# Altium integrated library Atmel Industry Compatible CPLD.IntLib: 281 symbols (part 13 of 13)
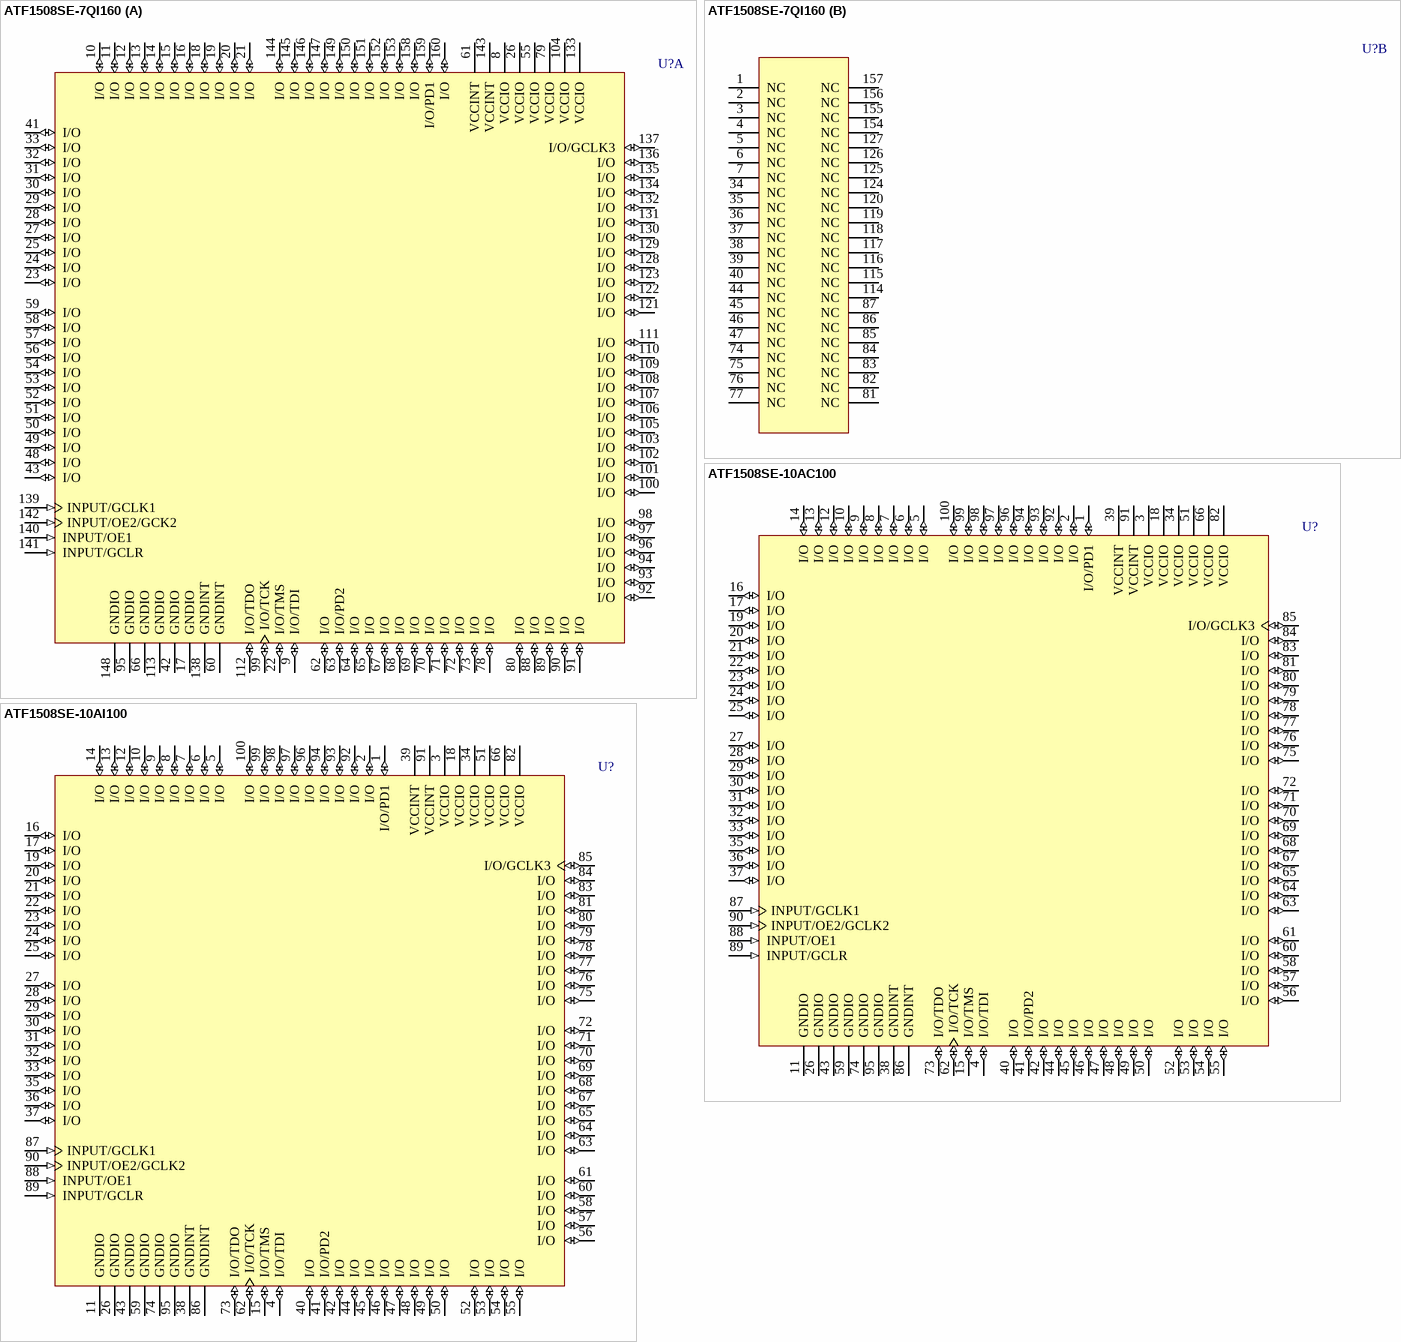
[diagram p62: symbols ATF1508SE-7QI160 to ATF1508SE-10AI100]

## ATF1508SE-7QI160
designator U?
ATF1508SE 5.0V CPLD, 128 Macrocells, 160-Lead PQFP, Speed Grade 7.5, Industrial Grade; Published: 19-Mar-2004; LatestRevisionDate: 13-Apr-2006; LatestRevisionNote: IPC-7351 Footprint Added.; DatasheetVersion: Rev. 2401D-PLD-09/02; PackageVersion: rev.A, Mar-2002; PackageReference: 160Q1; Publisher: Altium Limited; PackageDescription: 160-Pin Quad Flat Pack 0.65 mm Pitch; Code_JEDEC: MS-022-DD-1; Code_IPC: QFP65P3120X3120-160; ComponentLink1Description: Manufacturer Link; ComponentLink1URL: http://www.atmel.com/products/pld/default.asp; ComponentLink2Description: Datasheet; ComponentLink2URL: http://www.atmel.com/dyn/resources/prod_documents/DOC2401.pdf; ComponentLink3Description: Atmel.com Home; ComponentLink3URL: http://www.atmel.com
footprint 160Q1_N (QFP, 160-Leads, Body 28x28mm, Pitch 0.65mm, IPC Medium Density)
footprint 160Q1_L (QFP, 160-Leads, Body 28x28mm, Pitch 0.65mm, IPC High Density)
footprint 160Q1_M (QFP, 160-Leads, Body 28x28mm, Pitch 0.65mm, IPC Low Density)
part A pins: 8 VCCIO (power), 9 I/O/TDI (io), 10 I/O (io), 11 I/O (io), 12 I/O (io), 13 I/O (io), 14 I/O (io), 15 I/O (io), 16 I/O (io), 17 GNDIO (power), 18 I/O (io), 19 I/O (io), 20 I/O (io), 21 I/O (io), 22 I/O/TMS (io), 23 I/O (io), 24 I/O (io), 25 I/O (io), 26 VCCIO (power), 27 I/O (io), 28 I/O (io), 29 I/O (io), 30 I/O (io), 31 I/O (io), 32 I/O (io), 33 I/O (io), 41 I/O (io), 42 GNDIO (power), 43 I/O (io), 48 I/O (io), 49 I/O (io), 50 I/O (io), 51 I/O (io), 52 I/O (io), 53 I/O (io), 54 I/O (io), 55 VCCIO (power), 56 I/O (io), 57 I/O (io), 58 I/O (io), 59 I/O (io), 60 GNDINT (power), 61 VCCINT (power), 62 I/O (io), 63 I/O/PD2 (io), 64 I/O (io), 65 I/O (io), 66 GNDIO (power), 67 I/O (io), 68 I/O (io), 69 I/O (io), 70 I/O (io), 71 I/O (io), 72 I/O (io), 73 I/O (io), 78 I/O (io), 79 VCCIO (power), 80 I/O (io), 88 I/O (io), 89 I/O (io), 90 I/O (io), 91 I/O (io), 92 I/O (io), 93 I/O (io), 94 I/O (io), 95 GNDIO (power), 96 I/O (io), 97 I/O (io), 98 I/O (io), 99 I/O/TCK (io), 100 I/O (io), 101 I/O (io), 102 I/O (io), 103 I/O (io), 104 VCCIO (power), 105 I/O (io), 106 I/O (io), 107 I/O (io), 108 I/O (io), 109 I/O (io), 110 I/O (io), 111 I/O (io), 112 I/O/TDO (io), 113 GNDIO (power), 121 I/O (io), 122 I/O (io), 123 I/O (io), 128 I/O (io), 129 I/O (io), 130 I/O (io), 131 I/O (io), 132 I/O (io), 133 VCCIO (power), 134 I/O (io), 135 I/O (io), 136 I/O (io), 137 I/O/GCLK3 (io), 138 GNDINT (power), 139 INPUT/GCLK1 (in), 140 INPUT/OE1 (in), 141 INPUT/GCLR (in), 142 INPUT/OE2/GCK2 (in), 143 VCCINT (power), 144 I/O (io), 145 I/O (io), 146 I/O (io), 147 I/O (io), 148 GNDIO (power), 149 I/O (io), 150 I/O (io), 151 I/O (io), 152 I/O (io), 153 I/O (io), 158 I/O (io), 159 I/O/PD1 (io), 160 I/O (io)
part B pins: 1 NC, 2 NC, 3 NC, 4 NC, 5 NC, 6 NC, 7 NC, 34 NC, 35 NC, 36 NC, 37 NC, 38 NC, 39 NC, 40 NC, 44 NC, 45 NC, 46 NC, 47 NC, 74 NC, 75 NC, 76 NC, 77 NC, 81 NC, 82 NC, 83 NC, 84 NC, 85 NC, 86 NC, 87 NC, 114 NC, 115 NC, 116 NC, 117 NC, 118 NC, 119 NC, 120 NC, 124 NC, 125 NC, 126 NC, 127 NC, 154 NC, 155 NC, 156 NC, 157 NC

## ATF1508SE-10AC100
designator U?
ATF1508SE 5.0V CPLD, 128 Macrocells, 100-Lead TQFP, Speed Grade 10, Commercial Grade; Published: 19-Mar-2004; LatestRevisionDate: 13-Apr-2006; LatestRevisionNote: IPC-7351 Footprint Added.; DatasheetVersion: Rev. 2401D-PLD-09/02; PackageVersion: rev.A, Nov-2001; PackageReference: 100T1; Publisher: Altium Limited; PackageDescription: 100-Pin Thin Quad Flat Pack 0.5 mm Pitch; Code_JEDEC: MS-026-AED; ComponentLink1Description: Manufacturer Link; ComponentLink1URL: http://www.atmel.com/products/pld/default.asp; ComponentLink2Description: Datasheet; ComponentLink2URL: http://www.atmel.com/dyn/resources/prod_documents/DOC2401.pdf; ComponentLink3Description: Atmel.com Home; ComponentLink3URL: http://www.atmel.com
footprint 100T1_N (Thin QFP, 100-Leads, Body 14x14mm, Pitch 0.5mm, IPC Medium Density)
footprint 100T1_L (Thin QFP, 100-Leads, Body 14x14mm, Pitch 0.5mm, IPC High Density)
footprint 100T1_M (Thin QFP, 100-Leads, Body 14x14mm, Pitch 0.5mm, IPC Low Density)
pins: 1 I/O/PD1 (io), 2 I/O (io), 3 VCCIO (power), 4 I/O/TDI (io), 5 I/O (io), 6 I/O (io), 7 I/O (io), 8 I/O (io), 9 I/O (io), 10 I/O (io), 11 GNDIO (power), 12 I/O (io), 13 I/O (io), 14 I/O (io), 15 I/O/TMS (io), 16 I/O (io), 17 I/O (io), 18 VCCIO (power), 19 I/O (io), 20 I/O (io), 21 I/O (io), 22 I/O (io), 23 I/O (io), 24 I/O (io), 25 I/O (io), 26 GNDIO (power), 27 I/O (io), 28 I/O (io), 29 I/O (io), 30 I/O (io), 31 I/O (io), 32 I/O (io), 33 I/O (io), 34 VCCIO (power), 35 I/O (io), 36 I/O (io), 37 I/O (io), 38 GNDINT (power), 39 VCCINT (power), 40 I/O (io), 41 I/O/PD2 (io), 42 I/O (io), 43 GNDIO (power), 44 I/O (io), 45 I/O (io), 46 I/O (io), 47 I/O (io), 48 I/O (io), 49 I/O (io), 50 I/O (io), 51 VCCIO (power), 52 I/O (io), 53 I/O (io), 54 I/O (io), 55 I/O (io), 56 I/O (io), 57 I/O (io), 58 I/O (io), 59 GNDIO (power), 60 I/O (io), 61 I/O (io), 62 I/O/TCK (io), 63 I/O (io), 64 I/O (io), 65 I/O (io), 66 VCCIO (power), 67 I/O (io), 68 I/O (io), 69 I/O (io), 70 I/O (io), 71 I/O (io), 72 I/O (io), 73 I/O/TDO (io), 74 GNDIO (power), 75 I/O (io), 76 I/O (io), 77 I/O (io), 78 I/O (io), 79 I/O (io), 80 I/O (io), 81 I/O (io), 82 VCCIO (power), 83 I/O (io), 84 I/O (io), 85 I/O/GCLK3 (io), 86 GNDINT (power), 87 INPUT/GCLK1 (in), 88 INPUT/OE1 (in), 89 INPUT/GCLR (in), 90 INPUT/OE2/GCLK2 (in), 91 VCCINT (power), 92 I/O (io), 93 I/O (io), 94 I/O (io), 95 GNDIO (power), 96 I/O (io), 97 I/O (io), 98 I/O (io), 99 I/O (io), 100 I/O (io)

## ATF1508SE-10AI100
designator U?
ATF1508SE 5.0V CPLD, 128 Macrocells, 100-Lead TQFP, Speed Grade 10, Industrial Grade; Published: 19-Mar-2004; LatestRevisionDate: 13-Apr-2006; LatestRevisionNote: IPC-7351 Footprint Added.; DatasheetVersion: Rev. 2401D-PLD-09/02; PackageVersion: rev.A, Nov-2001; PackageReference: 100T1; Publisher: Altium Limited; PackageDescription: 100-Pin Thin Quad Flat Pack 0.5 mm Pitch; Code_JEDEC: MS-026-AED; ComponentLink1Description: Manufacturer Link; ComponentLink1URL: http://www.atmel.com/products/pld/default.asp; ComponentLink2Description: Datasheet; ComponentLink2URL: http://www.atmel.com/dyn/resources/prod_documents/DOC2401.pdf; ComponentLink3Description: Atmel.com Home; ComponentLink3URL: http://www.atmel.com
footprint 100T1_N (Thin QFP, 100-Leads, Body 14x14mm, Pitch 0.5mm, IPC Medium Density)
footprint 100T1_L (Thin QFP, 100-Leads, Body 14x14mm, Pitch 0.5mm, IPC High Density)
footprint 100T1_M (Thin QFP, 100-Leads, Body 14x14mm, Pitch 0.5mm, IPC Low Density)
pins: 1 I/O/PD1 (io), 2 I/O (io), 3 VCCIO (power), 4 I/O/TDI (io), 5 I/O (io), 6 I/O (io), 7 I/O (io), 8 I/O (io), 9 I/O (io), 10 I/O (io), 11 GNDIO (power), 12 I/O (io), 13 I/O (io), 14 I/O (io), 15 I/O/TMS (io), 16 I/O (io), 17 I/O (io), 18 VCCIO (power), 19 I/O (io), 20 I/O (io), 21 I/O (io), 22 I/O (io), 23 I/O (io), 24 I/O (io), 25 I/O (io), 26 GNDIO (power), 27 I/O (io), 28 I/O (io), 29 I/O (io), 30 I/O (io), 31 I/O (io), 32 I/O (io), 33 I/O (io), 34 VCCIO (power), 35 I/O (io), 36 I/O (io), 37 I/O (io), 38 GNDINT (power), 39 VCCINT (power), 40 I/O (io), 41 I/O/PD2 (io), 42 I/O (io), 43 GNDIO (power), 44 I/O (io), 45 I/O (io), 46 I/O (io), 47 I/O (io), 48 I/O (io), 49 I/O (io), 50 I/O (io), 51 VCCIO (power), 52 I/O (io), 53 I/O (io), 54 I/O (io), 55 I/O (io), 56 I/O (io), 57 I/O (io), 58 I/O (io), 59 GNDIO (power), 60 I/O (io), 61 I/O (io), 62 I/O/TCK (io), 63 I/O (io), 64 I/O (io), 65 I/O (io), 66 VCCIO (power), 67 I/O (io), 68 I/O (io), 69 I/O (io), 70 I/O (io), 71 I/O (io), 72 I/O (io), 73 I/O/TDO (io), 74 GNDIO (power), 75 I/O (io), 76 I/O (io), 77 I/O (io), 78 I/O (io), 79 I/O (io), 80 I/O (io), 81 I/O (io), 82 VCCIO (power), 83 I/O (io), 84 I/O (io), 85 I/O/GCLK3 (io), 86 GNDINT (power), 87 INPUT/GCLK1 (in), 88 INPUT/OE1 (in), 89 INPUT/GCLR (in), 90 INPUT/OE2/GCLK2 (in), 91 VCCINT (power), 92 I/O (io), 93 I/O (io), 94 I/O (io), 95 GNDIO (power), 96 I/O (io), 97 I/O (io), 98 I/O (io), 99 I/O (io), 100 I/O (io)

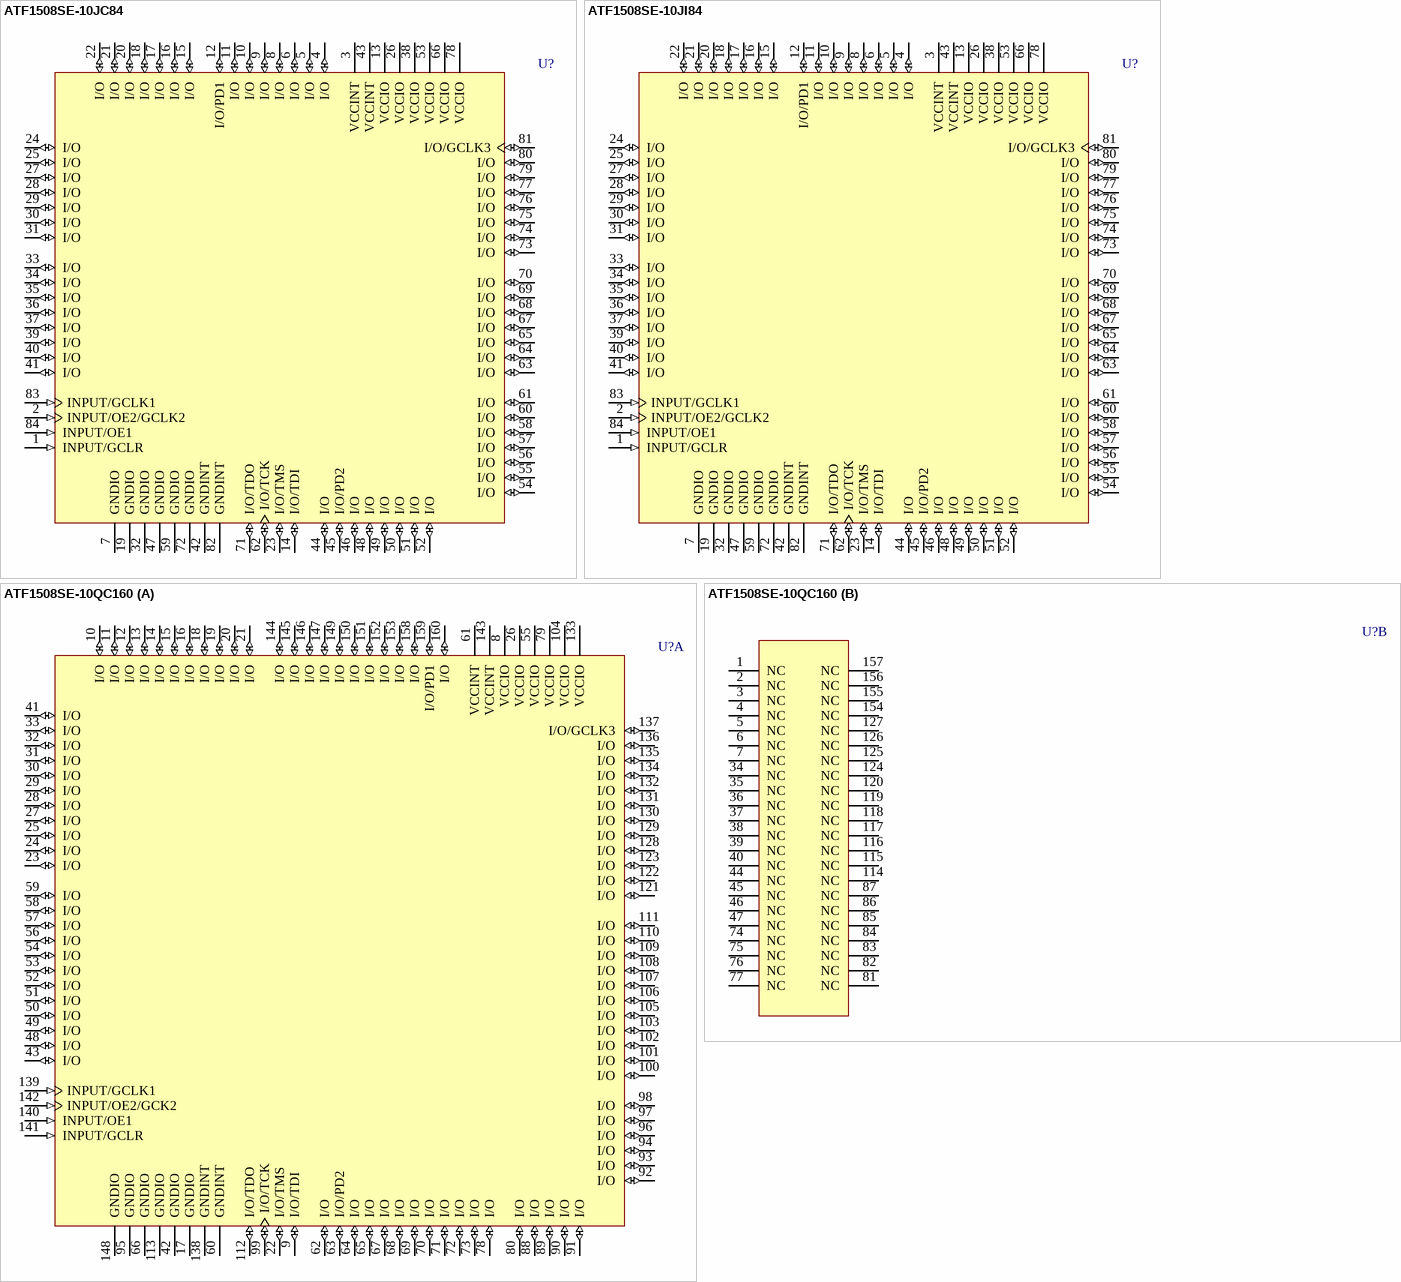
[diagram p48: symbols ATF1508SE-10JC84 to ATF1508SE-10QC160]

## ATF1508SE-10JC84
designator U?
ATF1508SE 5.0V CPLD, 128 Macrocells, 84-Lead PLCC, Speed Grade 10, Commercial Grade; Published: 19-Mar-2004; LatestRevisionDate: 13-Apr-2006; LatestRevisionNote: IPC-7351 Footprint Added.; DatasheetVersion: Rev. 2401D-PLD-09/02; PackageVersion: rev.B, Oct-2001; PackageReference: 84J; Publisher: Altium Limited; PackageDescription: 84J, 84-lead, Plastic J-leaded Chip Carrier (PLCC); Code_JEDEC: MS-018-AF; Code_IPC: PLCC-84; ComponentLink1Description: Manufacturer Link; ComponentLink1URL: http://www.atmel.com/products/pld/default.asp; ComponentLink2Description: Datasheet; ComponentLink2URL: http://www.atmel.com/dyn/resources/prod_documents/DOC2401.pdf; ComponentLink3Description: Atmel.com Home; ComponentLink3URL: http://www.atmel.com
footprint 84J_N (Leaded Chip Carrier, 84-Leads, Body 29.3x29.3mm, Pitch 1.27mm, IPC Medium Density)
footprint 84J_L (Leaded Chip Carrier, 84-Leads, Body 29.3x29.3mm, Pitch 1.27mm, IPC High Density)
footprint 84J_M (Leaded Chip Carrier, 84-Leads, Body 29.3x29.3mm, Pitch 1.27mm, IPC Low Density)
pins: 1 INPUT/GCLR (in), 2 INPUT/OE2/GCLK2 (in), 3 VCCINT (power), 4 I/O (io), 5 I/O (io), 6 I/O (io), 7 GNDIO (power), 8 I/O (io), 9 I/O (io), 10 I/O (io), 11 I/O (io), 12 I/O/PD1 (io), 13 VCCIO (power), 14 I/O/TDI (io), 15 I/O (io), 16 I/O (io), 17 I/O (io), 18 I/O (io), 19 GNDIO (power), 20 I/O (io), 21 I/O (io), 22 I/O (io), 23 I/O/TMS (io), 24 I/O (io), 25 I/O (io), 26 VCCIO (power), 27 I/O (io), 28 I/O (io), 29 I/O (io), 30 I/O (io), 31 I/O (io), 32 GNDIO (power), 33 I/O (io), 34 I/O (io), 35 I/O (io), 36 I/O (io), 37 I/O (io), 38 VCCIO (power), 39 I/O (io), 40 I/O (io), 41 I/O (io), 42 GNDINT (power), 43 VCCINT (power), 44 I/O (io), 45 I/O/PD2 (io), 46 I/O (io), 47 GNDIO (power), 48 I/O (io), 49 I/O (io), 50 I/O (io), 51 I/O (io), 52 I/O (io), 53 VCCIO (power), 54 I/O (io), 55 I/O (io), 56 I/O (io), 57 I/O (io), 58 I/O (io), 59 GNDIO (power), 60 I/O (io), 61 I/O (io), 62 I/O/TCK (io), 63 I/O (io), 64 I/O (io), 65 I/O (io), 66 VCCIO (power), 67 I/O (io), 68 I/O (io), 69 I/O (io), 70 I/O (io), 71 I/O/TDO (io), 72 GNDIO (power), 73 I/O (io), 74 I/O (io), 75 I/O (io), 76 I/O (io), 77 I/O (io), 78 VCCIO (power), 79 I/O (io), 80 I/O (io), 81 I/O/GCLK3 (io), 82 GNDINT (power), 83 INPUT/GCLK1 (in), 84 INPUT/OE1 (in)

## ATF1508SE-10JI84
designator U?
ATF1508SE 5.0V CPLD, 128 Macrocells, 84-Lead PLCC, Speed Grade 10, Industrial Grade; Published: 19-Mar-2004; LatestRevisionDate: 13-Apr-2006; LatestRevisionNote: IPC-7351 Footprint Added.; DatasheetVersion: Rev. 2401D-PLD-09/02; PackageVersion: rev.B, Oct-2001; PackageReference: 84J; Publisher: Altium Limited; PackageDescription: 84J, 84-lead, Plastic J-leaded Chip Carrier (PLCC); Code_JEDEC: MS-018-AF; Code_IPC: PLCC-84; ComponentLink1Description: Manufacturer Link; ComponentLink1URL: http://www.atmel.com/products/pld/default.asp; ComponentLink2Description: Datasheet; ComponentLink2URL: http://www.atmel.com/dyn/resources/prod_documents/DOC2401.pdf; ComponentLink3Description: Atmel.com Home; ComponentLink3URL: http://www.atmel.com
footprint 84J_N (Leaded Chip Carrier, 84-Leads, Body 29.3x29.3mm, Pitch 1.27mm, IPC Medium Density)
footprint 84J_L (Leaded Chip Carrier, 84-Leads, Body 29.3x29.3mm, Pitch 1.27mm, IPC High Density)
footprint 84J_M (Leaded Chip Carrier, 84-Leads, Body 29.3x29.3mm, Pitch 1.27mm, IPC Low Density)
pins: 1 INPUT/GCLR (in), 2 INPUT/OE2/GCLK2 (in), 3 VCCINT (power), 4 I/O (io), 5 I/O (io), 6 I/O (io), 7 GNDIO (power), 8 I/O (io), 9 I/O (io), 10 I/O (io), 11 I/O (io), 12 I/O/PD1 (io), 13 VCCIO (power), 14 I/O/TDI (io), 15 I/O (io), 16 I/O (io), 17 I/O (io), 18 I/O (io), 19 GNDIO (power), 20 I/O (io), 21 I/O (io), 22 I/O (io), 23 I/O/TMS (io), 24 I/O (io), 25 I/O (io), 26 VCCIO (power), 27 I/O (io), 28 I/O (io), 29 I/O (io), 30 I/O (io), 31 I/O (io), 32 GNDIO (power), 33 I/O (io), 34 I/O (io), 35 I/O (io), 36 I/O (io), 37 I/O (io), 38 VCCIO (power), 39 I/O (io), 40 I/O (io), 41 I/O (io), 42 GNDINT (power), 43 VCCINT (power), 44 I/O (io), 45 I/O/PD2 (io), 46 I/O (io), 47 GNDIO (power), 48 I/O (io), 49 I/O (io), 50 I/O (io), 51 I/O (io), 52 I/O (io), 53 VCCIO (power), 54 I/O (io), 55 I/O (io), 56 I/O (io), 57 I/O (io), 58 I/O (io), 59 GNDIO (power), 60 I/O (io), 61 I/O (io), 62 I/O/TCK (io), 63 I/O (io), 64 I/O (io), 65 I/O (io), 66 VCCIO (power), 67 I/O (io), 68 I/O (io), 69 I/O (io), 70 I/O (io), 71 I/O/TDO (io), 72 GNDIO (power), 73 I/O (io), 74 I/O (io), 75 I/O (io), 76 I/O (io), 77 I/O (io), 78 VCCIO (power), 79 I/O (io), 80 I/O (io), 81 I/O/GCLK3 (io), 82 GNDINT (power), 83 INPUT/GCLK1 (in), 84 INPUT/OE1 (in)

## ATF1508SE-10QC160
designator U?
ATF1508SE 5.0V CPLD, 128 Macrocells, 160-Lead PQFP, Speed Grade 10, Commercial Grade; Published: 19-Mar-2004; LatestRevisionDate: 13-Apr-2006; LatestRevisionNote: IPC-7351 Footprint Added.; DatasheetVersion: Rev. 2401D-PLD-09/02; PackageVersion: rev.A, Mar-2002; PackageReference: 160Q1; Publisher: Altium Limited; PackageDescription: 160-Pin Quad Flat Pack 0.65 mm Pitch; Code_JEDEC: MS-022-DD-1; Code_IPC: QFP65P3120X3120-160; ComponentLink1Description: Manufacturer Link; ComponentLink1URL: http://www.atmel.com/products/pld/default.asp; ComponentLink2Description: Datasheet; ComponentLink2URL: http://www.atmel.com/dyn/resources/prod_documents/DOC2401.pdf; ComponentLink3Description: Atmel.com Home; ComponentLink3URL: http://www.atmel.com
footprint 160Q1_N (QFP, 160-Leads, Body 28x28mm, Pitch 0.65mm, IPC Medium Density)
footprint 160Q1_L (QFP, 160-Leads, Body 28x28mm, Pitch 0.65mm, IPC High Density)
footprint 160Q1_M (QFP, 160-Leads, Body 28x28mm, Pitch 0.65mm, IPC Low Density)
part A pins: 8 VCCIO (power), 9 I/O/TDI (io), 10 I/O (io), 11 I/O (io), 12 I/O (io), 13 I/O (io), 14 I/O (io), 15 I/O (io), 16 I/O (io), 17 GNDIO (power), 18 I/O (io), 19 I/O (io), 20 I/O (io), 21 I/O (io), 22 I/O/TMS (io), 23 I/O (io), 24 I/O (io), 25 I/O (io), 26 VCCIO (power), 27 I/O (io), 28 I/O (io), 29 I/O (io), 30 I/O (io), 31 I/O (io), 32 I/O (io), 33 I/O (io), 41 I/O (io), 42 GNDIO (power), 43 I/O (io), 48 I/O (io), 49 I/O (io), 50 I/O (io), 51 I/O (io), 52 I/O (io), 53 I/O (io), 54 I/O (io), 55 VCCIO (power), 56 I/O (io), 57 I/O (io), 58 I/O (io), 59 I/O (io), 60 GNDINT (power), 61 VCCINT (power), 62 I/O (io), 63 I/O/PD2 (io), 64 I/O (io), 65 I/O (io), 66 GNDIO (power), 67 I/O (io), 68 I/O (io), 69 I/O (io), 70 I/O (io), 71 I/O (io), 72 I/O (io), 73 I/O (io), 78 I/O (io), 79 VCCIO (power), 80 I/O (io), 88 I/O (io), 89 I/O (io), 90 I/O (io), 91 I/O (io), 92 I/O (io), 93 I/O (io), 94 I/O (io), 95 GNDIO (power), 96 I/O (io), 97 I/O (io), 98 I/O (io), 99 I/O/TCK (io), 100 I/O (io), 101 I/O (io), 102 I/O (io), 103 I/O (io), 104 VCCIO (power), 105 I/O (io), 106 I/O (io), 107 I/O (io), 108 I/O (io), 109 I/O (io), 110 I/O (io), 111 I/O (io), 112 I/O/TDO (io), 113 GNDIO (power), 121 I/O (io), 122 I/O (io), 123 I/O (io), 128 I/O (io), 129 I/O (io), 130 I/O (io), 131 I/O (io), 132 I/O (io), 133 VCCIO (power), 134 I/O (io), 135 I/O (io), 136 I/O (io), 137 I/O/GCLK3 (io), 138 GNDINT (power), 139 INPUT/GCLK1 (in), 140 INPUT/OE1 (in), 141 INPUT/GCLR (in), 142 INPUT/OE2/GCK2 (in), 143 VCCINT (power), 144 I/O (io), 145 I/O (io), 146 I/O (io), 147 I/O (io), 148 GNDIO (power), 149 I/O (io), 150 I/O (io), 151 I/O (io), 152 I/O (io), 153 I/O (io), 158 I/O (io), 159 I/O/PD1 (io), 160 I/O (io)
part B pins: 1 NC, 2 NC, 3 NC, 4 NC, 5 NC, 6 NC, 7 NC, 34 NC, 35 NC, 36 NC, 37 NC, 38 NC, 39 NC, 40 NC, 44 NC, 45 NC, 46 NC, 47 NC, 74 NC, 75 NC, 76 NC, 77 NC, 81 NC, 82 NC, 83 NC, 84 NC, 85 NC, 86 NC, 87 NC, 114 NC, 115 NC, 116 NC, 117 NC, 118 NC, 119 NC, 120 NC, 124 NC, 125 NC, 126 NC, 127 NC, 154 NC, 155 NC, 156 NC, 157 NC

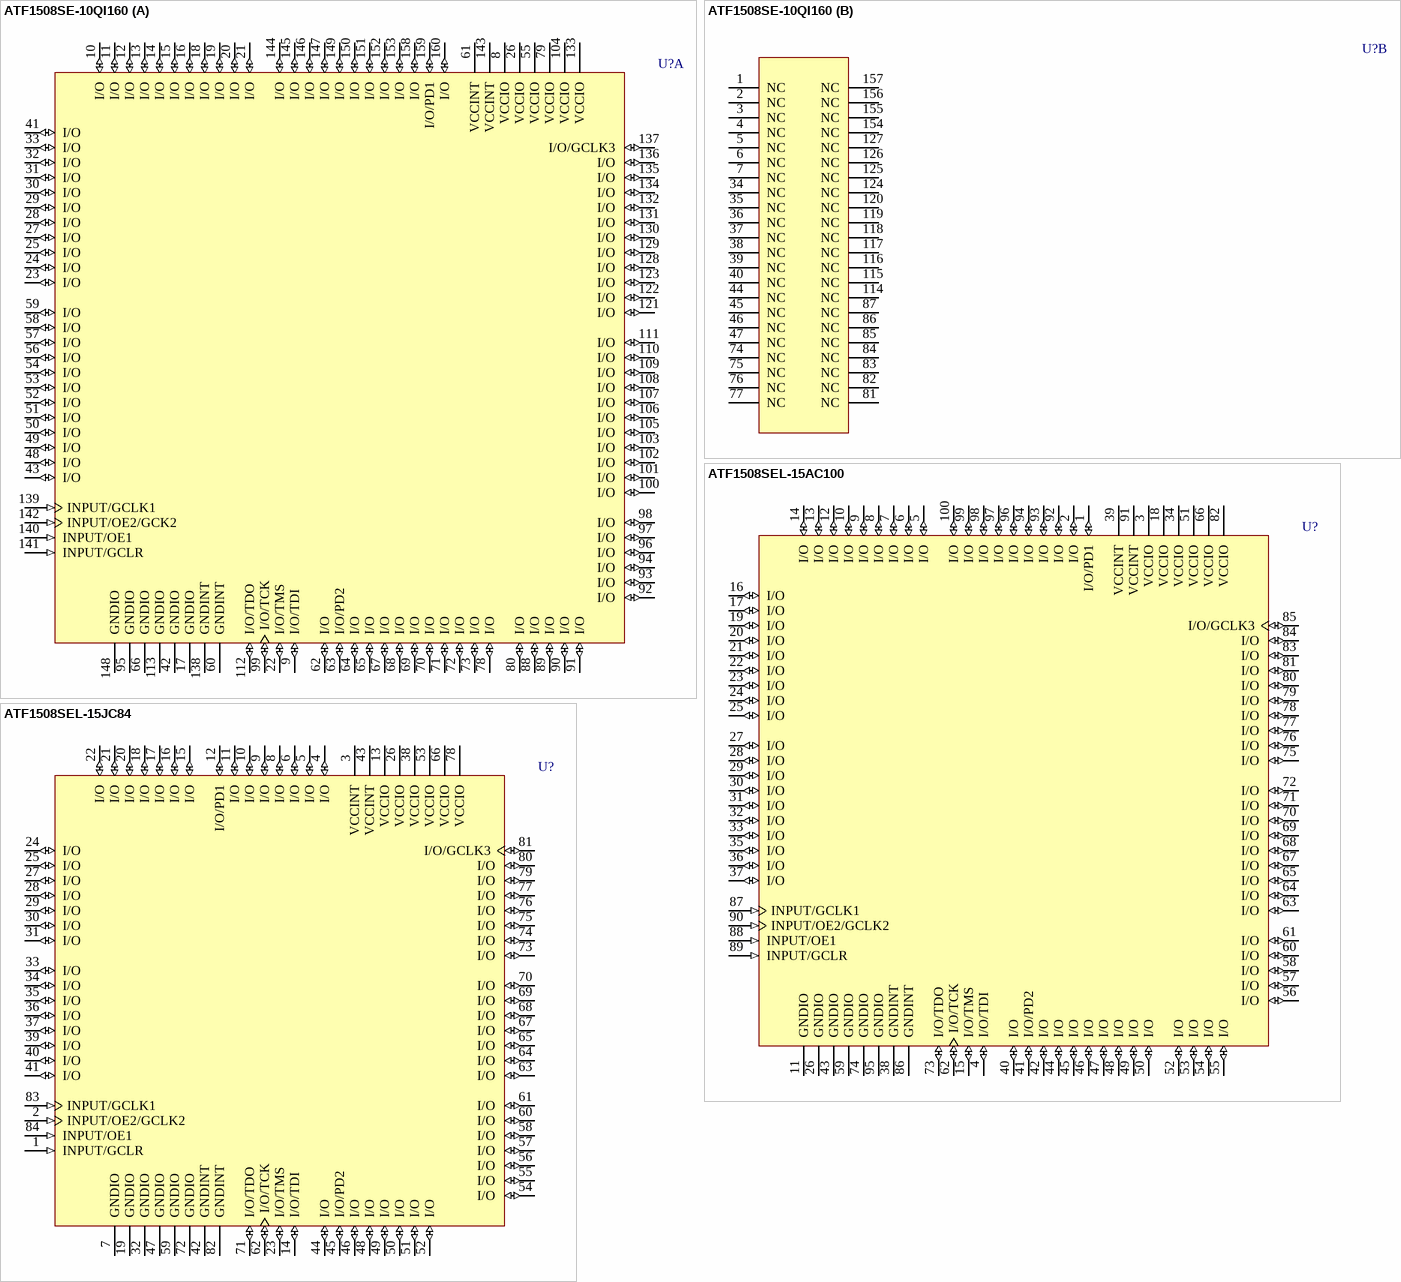
[diagram p49: symbols ATF1508SE-10QI160 to ATF1508SEL-15JC84]

## ATF1508SE-10QI160
designator U?
ATF1508SE 5.0V CPLD, 128 Macrocells, 160-Lead PQFP, Speed Grade 10, Industrial Grade; Published: 19-Mar-2004; LatestRevisionDate: 13-Apr-2006; LatestRevisionNote: IPC-7351 Footprint Added.; DatasheetVersion: Rev. 2401D-PLD-09/02; PackageVersion: rev.A, Mar-2002; PackageReference: 160Q1; Publisher: Altium Limited; PackageDescription: 160-Pin Quad Flat Pack 0.65 mm Pitch; Code_JEDEC: MS-022-DD-1; Code_IPC: QFP65P3120X3120-160; ComponentLink1Description: Manufacturer Link; ComponentLink1URL: http://www.atmel.com/products/pld/default.asp; ComponentLink2Description: Datasheet; ComponentLink2URL: http://www.atmel.com/dyn/resources/prod_documents/DOC2401.pdf; ComponentLink3Description: Atmel.com Home; ComponentLink3URL: http://www.atmel.com
footprint 160Q1_N (QFP, 160-Leads, Body 28x28mm, Pitch 0.65mm, IPC Medium Density)
footprint 160Q1_L (QFP, 160-Leads, Body 28x28mm, Pitch 0.65mm, IPC High Density)
footprint 160Q1_M (QFP, 160-Leads, Body 28x28mm, Pitch 0.65mm, IPC Low Density)
part A pins: 8 VCCIO (power), 9 I/O/TDI (io), 10 I/O (io), 11 I/O (io), 12 I/O (io), 13 I/O (io), 14 I/O (io), 15 I/O (io), 16 I/O (io), 17 GNDIO (power), 18 I/O (io), 19 I/O (io), 20 I/O (io), 21 I/O (io), 22 I/O/TMS (io), 23 I/O (io), 24 I/O (io), 25 I/O (io), 26 VCCIO (power), 27 I/O (io), 28 I/O (io), 29 I/O (io), 30 I/O (io), 31 I/O (io), 32 I/O (io), 33 I/O (io), 41 I/O (io), 42 GNDIO (power), 43 I/O (io), 48 I/O (io), 49 I/O (io), 50 I/O (io), 51 I/O (io), 52 I/O (io), 53 I/O (io), 54 I/O (io), 55 VCCIO (power), 56 I/O (io), 57 I/O (io), 58 I/O (io), 59 I/O (io), 60 GNDINT (power), 61 VCCINT (power), 62 I/O (io), 63 I/O/PD2 (io), 64 I/O (io), 65 I/O (io), 66 GNDIO (power), 67 I/O (io), 68 I/O (io), 69 I/O (io), 70 I/O (io), 71 I/O (io), 72 I/O (io), 73 I/O (io), 78 I/O (io), 79 VCCIO (power), 80 I/O (io), 88 I/O (io), 89 I/O (io), 90 I/O (io), 91 I/O (io), 92 I/O (io), 93 I/O (io), 94 I/O (io), 95 GNDIO (power), 96 I/O (io), 97 I/O (io), 98 I/O (io), 99 I/O/TCK (io), 100 I/O (io), 101 I/O (io), 102 I/O (io), 103 I/O (io), 104 VCCIO (power), 105 I/O (io), 106 I/O (io), 107 I/O (io), 108 I/O (io), 109 I/O (io), 110 I/O (io), 111 I/O (io), 112 I/O/TDO (io), 113 GNDIO (power), 121 I/O (io), 122 I/O (io), 123 I/O (io), 128 I/O (io), 129 I/O (io), 130 I/O (io), 131 I/O (io), 132 I/O (io), 133 VCCIO (power), 134 I/O (io), 135 I/O (io), 136 I/O (io), 137 I/O/GCLK3 (io), 138 GNDINT (power), 139 INPUT/GCLK1 (in), 140 INPUT/OE1 (in), 141 INPUT/GCLR (in), 142 INPUT/OE2/GCK2 (in), 143 VCCINT (power), 144 I/O (io), 145 I/O (io), 146 I/O (io), 147 I/O (io), 148 GNDIO (power), 149 I/O (io), 150 I/O (io), 151 I/O (io), 152 I/O (io), 153 I/O (io), 158 I/O (io), 159 I/O/PD1 (io), 160 I/O (io)
part B pins: 1 NC, 2 NC, 3 NC, 4 NC, 5 NC, 6 NC, 7 NC, 34 NC, 35 NC, 36 NC, 37 NC, 38 NC, 39 NC, 40 NC, 44 NC, 45 NC, 46 NC, 47 NC, 74 NC, 75 NC, 76 NC, 77 NC, 81 NC, 82 NC, 83 NC, 84 NC, 85 NC, 86 NC, 87 NC, 114 NC, 115 NC, 116 NC, 117 NC, 118 NC, 119 NC, 120 NC, 124 NC, 125 NC, 126 NC, 127 NC, 154 NC, 155 NC, 156 NC, 157 NC

## ATF1508SEL-15AC100
designator U?
ATF1508SEL 5.0V CPLD, 128 Macrocells, 100-Lead TQFP, Speed Grade 15, Commercial Grade; Published: 19-Mar-2004; LatestRevisionDate: 13-Apr-2006; LatestRevisionNote: IPC-7351 Footprint Added.; DatasheetVersion: Rev. 2401D-PLD-09/02; PackageVersion: rev.A, Nov-2001; PackageReference: 100T1; Publisher: Altium Limited; PackageDescription: 100-Pin Thin Quad Flat Pack 0.5 mm Pitch; Code_JEDEC: MS-026-AED; ComponentLink1Description: Manufacturer Link; ComponentLink1URL: http://www.atmel.com/products/pld/default.asp; ComponentLink2Description: Datasheet; ComponentLink2URL: http://www.atmel.com/dyn/resources/prod_documents/DOC2401.pdf; ComponentLink3Description: Atmel.com Home; ComponentLink3URL: http://www.atmel.com
footprint 100T1_N (Thin QFP, 100-Leads, Body 14x14mm, Pitch 0.5mm, IPC Medium Density)
footprint 100T1_L (Thin QFP, 100-Leads, Body 14x14mm, Pitch 0.5mm, IPC High Density)
footprint 100T1_M (Thin QFP, 100-Leads, Body 14x14mm, Pitch 0.5mm, IPC Low Density)
pins: 1 I/O/PD1 (io), 2 I/O (io), 3 VCCIO (power), 4 I/O/TDI (io), 5 I/O (io), 6 I/O (io), 7 I/O (io), 8 I/O (io), 9 I/O (io), 10 I/O (io), 11 GNDIO (power), 12 I/O (io), 13 I/O (io), 14 I/O (io), 15 I/O/TMS (io), 16 I/O (io), 17 I/O (io), 18 VCCIO (power), 19 I/O (io), 20 I/O (io), 21 I/O (io), 22 I/O (io), 23 I/O (io), 24 I/O (io), 25 I/O (io), 26 GNDIO (power), 27 I/O (io), 28 I/O (io), 29 I/O (io), 30 I/O (io), 31 I/O (io), 32 I/O (io), 33 I/O (io), 34 VCCIO (power), 35 I/O (io), 36 I/O (io), 37 I/O (io), 38 GNDINT (power), 39 VCCINT (power), 40 I/O (io), 41 I/O/PD2 (io), 42 I/O (io), 43 GNDIO (power), 44 I/O (io), 45 I/O (io), 46 I/O (io), 47 I/O (io), 48 I/O (io), 49 I/O (io), 50 I/O (io), 51 VCCIO (power), 52 I/O (io), 53 I/O (io), 54 I/O (io), 55 I/O (io), 56 I/O (io), 57 I/O (io), 58 I/O (io), 59 GNDIO (power), 60 I/O (io), 61 I/O (io), 62 I/O/TCK (io), 63 I/O (io), 64 I/O (io), 65 I/O (io), 66 VCCIO (power), 67 I/O (io), 68 I/O (io), 69 I/O (io), 70 I/O (io), 71 I/O (io), 72 I/O (io), 73 I/O/TDO (io), 74 GNDIO (power), 75 I/O (io), 76 I/O (io), 77 I/O (io), 78 I/O (io), 79 I/O (io), 80 I/O (io), 81 I/O (io), 82 VCCIO (power), 83 I/O (io), 84 I/O (io), 85 I/O/GCLK3 (io), 86 GNDINT (power), 87 INPUT/GCLK1 (in), 88 INPUT/OE1 (in), 89 INPUT/GCLR (in), 90 INPUT/OE2/GCLK2 (in), 91 VCCINT (power), 92 I/O (io), 93 I/O (io), 94 I/O (io), 95 GNDIO (power), 96 I/O (io), 97 I/O (io), 98 I/O (io), 99 I/O (io), 100 I/O (io)

## ATF1508SEL-15JC84
designator U?
ATF1508SEL 5.0V CPLD, 128 Macrocells, 84-Lead PLCC, Speed Grade 15, Commercial Grade; Published: 19-Mar-2004; LatestRevisionDate: 13-Apr-2006; LatestRevisionNote: IPC-7351 Footprint Added.; DatasheetVersion: Rev. 2401D-PLD-09/02; PackageVersion: rev.B, Oct-2001; PackageReference: 84J; Publisher: Altium Limited; PackageDescription: 84J, 84-lead, Plastic J-leaded Chip Carrier (PLCC); Code_JEDEC: MS-018-AF; Code_IPC: PLCC-84; ComponentLink1Description: Manufacturer Link; ComponentLink1URL: http://www.atmel.com/products/pld/default.asp; ComponentLink2Description: Datasheet; ComponentLink2URL: http://www.atmel.com/dyn/resources/prod_documents/DOC2401.pdf; ComponentLink3Description: Atmel.com Home; ComponentLink3URL: http://www.atmel.com
footprint 84J_N (Leaded Chip Carrier, 84-Leads, Body 29.3x29.3mm, Pitch 1.27mm, IPC Medium Density)
footprint 84J_L (Leaded Chip Carrier, 84-Leads, Body 29.3x29.3mm, Pitch 1.27mm, IPC High Density)
footprint 84J_M (Leaded Chip Carrier, 84-Leads, Body 29.3x29.3mm, Pitch 1.27mm, IPC Low Density)
pins: 1 INPUT/GCLR (in), 2 INPUT/OE2/GCLK2 (in), 3 VCCINT (power), 4 I/O (io), 5 I/O (io), 6 I/O (io), 7 GNDIO (power), 8 I/O (io), 9 I/O (io), 10 I/O (io), 11 I/O (io), 12 I/O/PD1 (io), 13 VCCIO (power), 14 I/O/TDI (io), 15 I/O (io), 16 I/O (io), 17 I/O (io), 18 I/O (io), 19 GNDIO (power), 20 I/O (io), 21 I/O (io), 22 I/O (io), 23 I/O/TMS (io), 24 I/O (io), 25 I/O (io), 26 VCCIO (power), 27 I/O (io), 28 I/O (io), 29 I/O (io), 30 I/O (io), 31 I/O (io), 32 GNDIO (power), 33 I/O (io), 34 I/O (io), 35 I/O (io), 36 I/O (io), 37 I/O (io), 38 VCCIO (power), 39 I/O (io), 40 I/O (io), 41 I/O (io), 42 GNDINT (power), 43 VCCINT (power), 44 I/O (io), 45 I/O/PD2 (io), 46 I/O (io), 47 GNDIO (power), 48 I/O (io), 49 I/O (io), 50 I/O (io), 51 I/O (io), 52 I/O (io), 53 VCCIO (power), 54 I/O (io), 55 I/O (io), 56 I/O (io), 57 I/O (io), 58 I/O (io), 59 GNDIO (power), 60 I/O (io), 61 I/O (io), 62 I/O/TCK (io), 63 I/O (io), 64 I/O (io), 65 I/O (io), 66 VCCIO (power), 67 I/O (io), 68 I/O (io), 69 I/O (io), 70 I/O (io), 71 I/O/TDO (io), 72 GNDIO (power), 73 I/O (io), 74 I/O (io), 75 I/O (io), 76 I/O (io), 77 I/O (io), 78 VCCIO (power), 79 I/O (io), 80 I/O (io), 81 I/O/GCLK3 (io), 82 GNDINT (power), 83 INPUT/GCLK1 (in), 84 INPUT/OE1 (in)

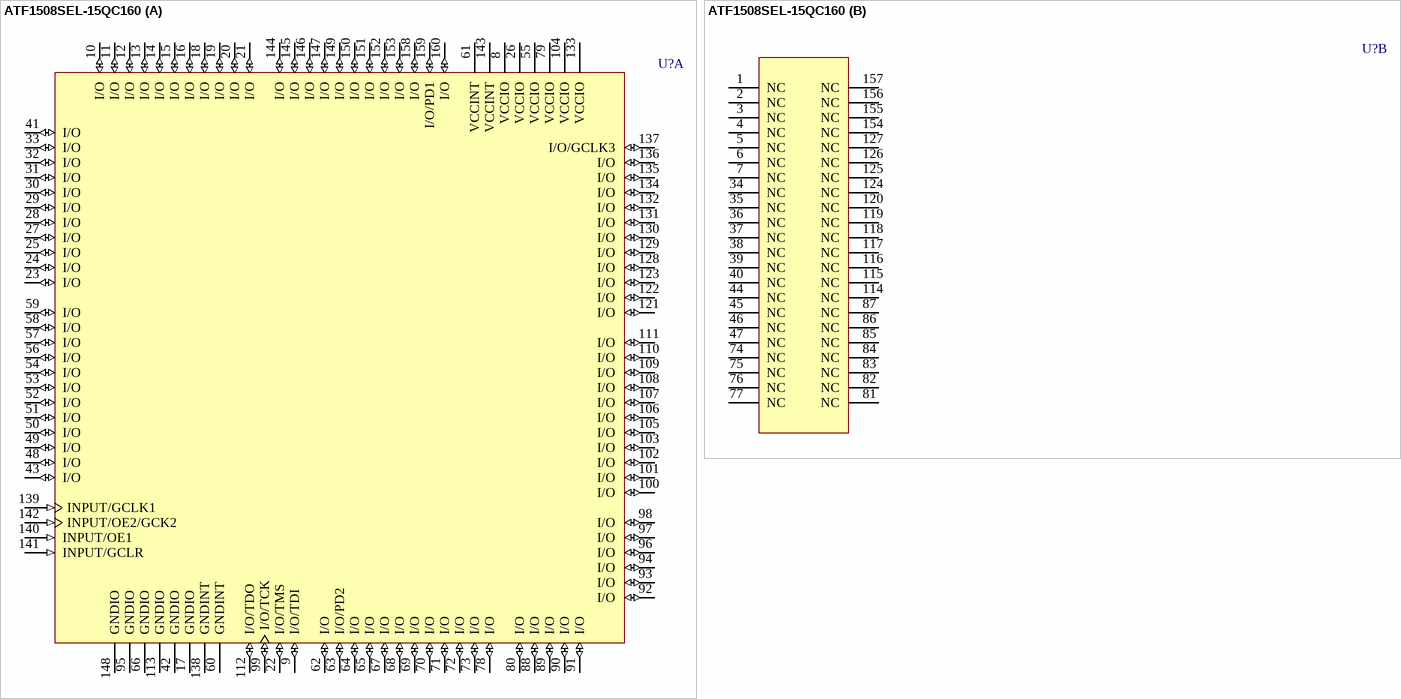
[diagram p50: symbol ATF1508SEL-15QC160]

## ATF1508SEL-15QC160
designator U?
ATF1508SEL 5.0V CPLD, 128 Macrocells, 160-Lead PQFP, Speed Grade 15, Commercial Grade; Published: 19-Mar-2004; LatestRevisionDate: 13-Apr-2006; LatestRevisionNote: IPC-7351 Footprint Added.; DatasheetVersion: Rev. 2401D-PLD-09/02; PackageVersion: rev.A, Mar-2002; PackageReference: 160Q1; Publisher: Altium Limited; PackageDescription: 160-Pin Quad Flat Pack 0.65 mm Pitch; Code_JEDEC: MS-022-DD-1; Code_IPC: QFP65P3120X3120-160; ComponentLink1Description: Manufacturer Link; ComponentLink1URL: http://www.atmel.com/products/pld/default.asp; ComponentLink2Description: Datasheet; ComponentLink2URL: http://www.atmel.com/dyn/resources/prod_documents/DOC2401.pdf; ComponentLink3Description: Atmel.com Home; ComponentLink3URL: http://www.atmel.com
footprint 160Q1_N (QFP, 160-Leads, Body 28x28mm, Pitch 0.65mm, IPC Medium Density)
footprint 160Q1_L (QFP, 160-Leads, Body 28x28mm, Pitch 0.65mm, IPC High Density)
footprint 160Q1_M (QFP, 160-Leads, Body 28x28mm, Pitch 0.65mm, IPC Low Density)
part A pins: 8 VCCIO (power), 9 I/O/TDI (io), 10 I/O (io), 11 I/O (io), 12 I/O (io), 13 I/O (io), 14 I/O (io), 15 I/O (io), 16 I/O (io), 17 GNDIO (power), 18 I/O (io), 19 I/O (io), 20 I/O (io), 21 I/O (io), 22 I/O/TMS (io), 23 I/O (io), 24 I/O (io), 25 I/O (io), 26 VCCIO (power), 27 I/O (io), 28 I/O (io), 29 I/O (io), 30 I/O (io), 31 I/O (io), 32 I/O (io), 33 I/O (io), 41 I/O (io), 42 GNDIO (power), 43 I/O (io), 48 I/O (io), 49 I/O (io), 50 I/O (io), 51 I/O (io), 52 I/O (io), 53 I/O (io), 54 I/O (io), 55 VCCIO (power), 56 I/O (io), 57 I/O (io), 58 I/O (io), 59 I/O (io), 60 GNDINT (power), 61 VCCINT (power), 62 I/O (io), 63 I/O/PD2 (io), 64 I/O (io), 65 I/O (io), 66 GNDIO (power), 67 I/O (io), 68 I/O (io), 69 I/O (io), 70 I/O (io), 71 I/O (io), 72 I/O (io), 73 I/O (io), 78 I/O (io), 79 VCCIO (power), 80 I/O (io), 88 I/O (io), 89 I/O (io), 90 I/O (io), 91 I/O (io), 92 I/O (io), 93 I/O (io), 94 I/O (io), 95 GNDIO (power), 96 I/O (io), 97 I/O (io), 98 I/O (io), 99 I/O/TCK (io), 100 I/O (io), 101 I/O (io), 102 I/O (io), 103 I/O (io), 104 VCCIO (power), 105 I/O (io), 106 I/O (io), 107 I/O (io), 108 I/O (io), 109 I/O (io), 110 I/O (io), 111 I/O (io), 112 I/O/TDO (io), 113 GNDIO (power), 121 I/O (io), 122 I/O (io), 123 I/O (io), 128 I/O (io), 129 I/O (io), 130 I/O (io), 131 I/O (io), 132 I/O (io), 133 VCCIO (power), 134 I/O (io), 135 I/O (io), 136 I/O (io), 137 I/O/GCLK3 (io), 138 GNDINT (power), 139 INPUT/GCLK1 (in), 140 INPUT/OE1 (in), 141 INPUT/GCLR (in), 142 INPUT/OE2/GCK2 (in), 143 VCCINT (power), 144 I/O (io), 145 I/O (io), 146 I/O (io), 147 I/O (io), 148 GNDIO (power), 149 I/O (io), 150 I/O (io), 151 I/O (io), 152 I/O (io), 153 I/O (io), 158 I/O (io), 159 I/O/PD1 (io), 160 I/O (io)
part B pins: 1 NC, 2 NC, 3 NC, 4 NC, 5 NC, 6 NC, 7 NC, 34 NC, 35 NC, 36 NC, 37 NC, 38 NC, 39 NC, 40 NC, 44 NC, 45 NC, 46 NC, 47 NC, 74 NC, 75 NC, 76 NC, 77 NC, 81 NC, 82 NC, 83 NC, 84 NC, 85 NC, 86 NC, 87 NC, 114 NC, 115 NC, 116 NC, 117 NC, 118 NC, 119 NC, 120 NC, 124 NC, 125 NC, 126 NC, 127 NC, 154 NC, 155 NC, 156 NC, 157 NC